# Altium footprint library eigene PCB Lib.PcbLib: 6 footprints
Each footprint in its own frame and in the unit in brackets; x right, y up, seen from the top. Pads: shape width x height; smd on the part's side, far side on the other; paste and mask are expansions set on the pad; w line width, h text height; cw(c..) or ccw(c..) is an arc to the next point about the centre after c.
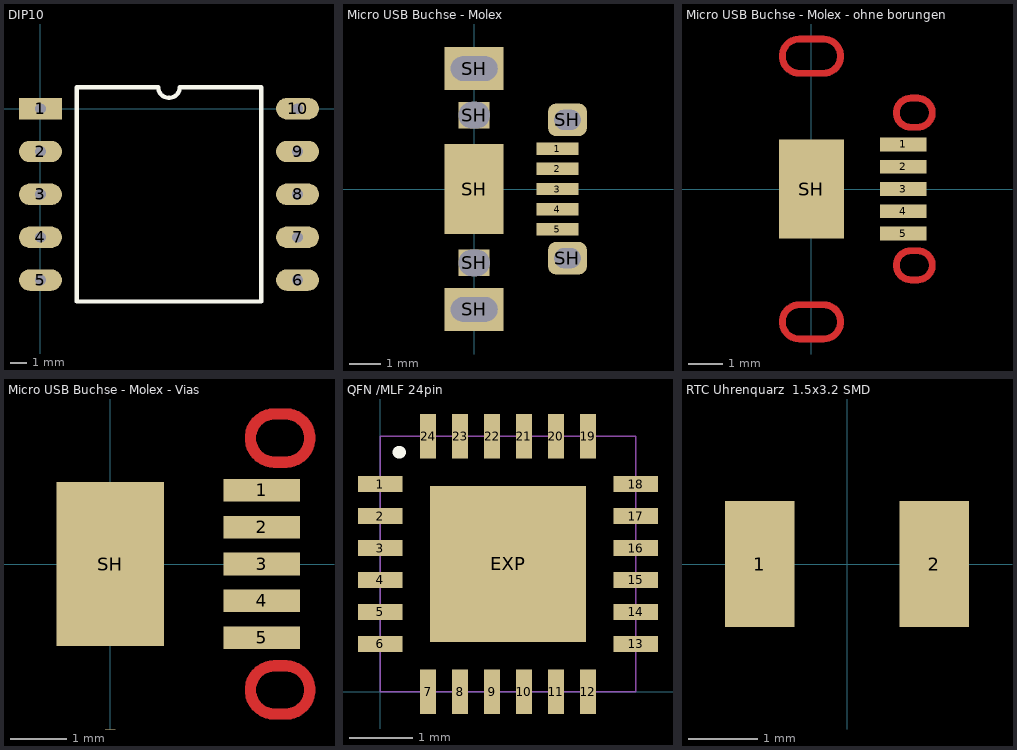
[diagram p0: the footprints below, top view; thin cyan lines are the x and y axes]

## DIP10 [mm]
pads (10):
  rect 2.54x1.27 hole 0.635: 1(0,0)
  oval 2.54x1.27 hole 0.635: 2(0,-2.54) 3(0,-5.08) 4(0,-7.62) 5(0,-10.16) 6(15.24,-10.16) 7(15.24,-7.62) 8(15.24,-5.08) 9(15.24,-2.54) 10(15.24,0)
Top Overlay:
  lines w0.254: 2.159,-11.43 13.081,-11.43 13.081,1.27 8.255,1.27 cw(c7.62,1.27) 6.985,1.27 2.159,1.27 2.159,-11.43

## Micro USB Buchse - Molex [mm] "Micro USB Buchse - Molex"
pads (12):
  rect 1.35x0.4 smd: 1(2.675,1.3) 2(2.675,0.65) 3(2.675,0) 4(2.675,-0.65) 5(2.675,-1.3)
  rect 1.9x1.375 hole 0.8 slot 1.5 at 0 deg: SH(0,-3.875) SH(0,3.875)
  rect 1x0.85 hole 0.85 slot 1 at 0 deg: SH(0,-2.375) SH(0,2.375)
  rect 1.9x2.9 smd: SH(0,0)
  rrect50% 1.25x1.05 hole 0.65 slot 0.85 at 0 deg: SH(3,-2.225) SH(3,2.225)
3D body "475900001.stp": height 2.67, standoff -0.69, extent -2.8,-4.375 3.1,4.275

## Micro USB Buchse - Molex - ohne borungen [mm] "Micro USB Buchse - Molex"
pads (6):
  rect 1.35x0.4 smd: 1(2.675,1.3) 2(2.675,0.65) 3(2.675,0) 4(2.675,-0.65) 5(2.675,-1.3)
  rect 1.9x2.9 smd: SH(0,0)
Top Layer:
  lines w0.2: -0.35,-4.375 cw(c-0.35,-3.875) -0.35,-3.375 0.35,-3.375 cw(c0.35,-3.875) 0.35,-4.375 -0.35,-4.375 ; -0.35,3.375 cw(c-0.35,3.875) -0.35,4.375 0.35,4.375 cw(c0.35,3.875) 0.35,3.375 -0.35,3.375 ; 2.9,-2.65 cw(c2.9,-2.225) 2.9,-1.8 3.1,-1.8 cw(c3.1,-2.225) 3.1,-2.65 2.9,-2.65 ; 2.9,1.8 cw(c2.9,2.225) 2.9,2.65 3.1,2.65 cw(c3.1,2.225) 3.1,1.8 2.9,1.8
3D body "475900001.stp": height 2.67, standoff -0.69, extent -2.8,-4.375 3.1,4.275

## Micro USB Buchse - Molex - Vias [mm] "Micro USB Buchse - Molex"
pads (6):
  rect 1.35x0.4 smd: 1(2.675,1.3) 2(2.675,0.65) 3(2.675,0) 4(2.675,-0.65) 5(2.675,-1.3)
  rect 1.9x2.9 smd: SH(0,0)
via 0,-3.875 diameter 1.9 hole 1.5
via 0,3.875 diameter 1.9 hole 1.5
Top Layer:
  lines w0.2: 2.9,-2.65 cw(c2.9,-2.225) 2.9,-1.8 3.1,-1.8 cw(c3.1,-2.225) 3.1,-2.65 2.9,-2.65 ; 2.9,1.8 cw(c2.9,2.225) 2.9,2.65 3.1,2.65 cw(c3.1,2.225) 3.1,1.8 2.9,1.8
3D body "475900001.stp": height 2.67, standoff -0.69, extent -2.8,-4.375 3.1,4.275

## QFN /MLF 24pin [mm]
height 0.85
pads (25):
  rect 0.7x0.25 smd: 1(0,3.25) 2(0,2.75) 3(0,2.25) 4(0,1.75) 5(0,1.25) 6(0,0.75) 13(4,0.75) 14(4,1.25) 15(4,1.75) 16(4,2.25) 17(4,2.75) 18(4,3.25)
  rect 0.25x0.7 smd: 7(0.75,0) 8(1.25,0) 9(1.75,0) 10(2.25,0) 11(2.75,0) 12(3.25,0) 19(3.25,4) 20(2.75,4) 21(2.25,4) 22(1.75,4) 23(1.25,4) 24(0.75,4)
  rect 2.45x2.45 smd: EXP(2,2)
Top Overlay:
  lines w0.2: 0.29,3.75 0.3,3.75
Mechanical 1:
  lines w0.025: 0,0 0,4 4,4 4,0 0,0
3D body: height 0.85, standoff 0, extent 0,0 4,4

## RTC Uhrenquarz  1.5x3.2 SMD [mm]
height 0.65
pads (2):
  rect 1x1.8 smd: 1(-1.25,0) 2(1.25,0)
3D body: height 0.65, standoff 0, extent -1.6,-0.75 1.6,0.75